# Altium schematic symbol library Capacitor.SchLib: 2 symbols
Pins are listed as number, name and electrical type; pins without a type are passive.

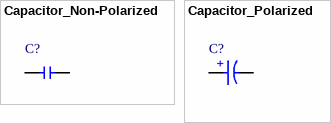
[diagram p0: symbols Capacitor_Non-Polarized to Capacitor_Polarized]

## Capacitor_Non-Polarized
designator C?
pins: 1, 2

## Capacitor_Polarized
designator C?
pins: 1 P, 2 N
text: +